# EAGLE library part LT1228 (library ota)
OTA with buffer
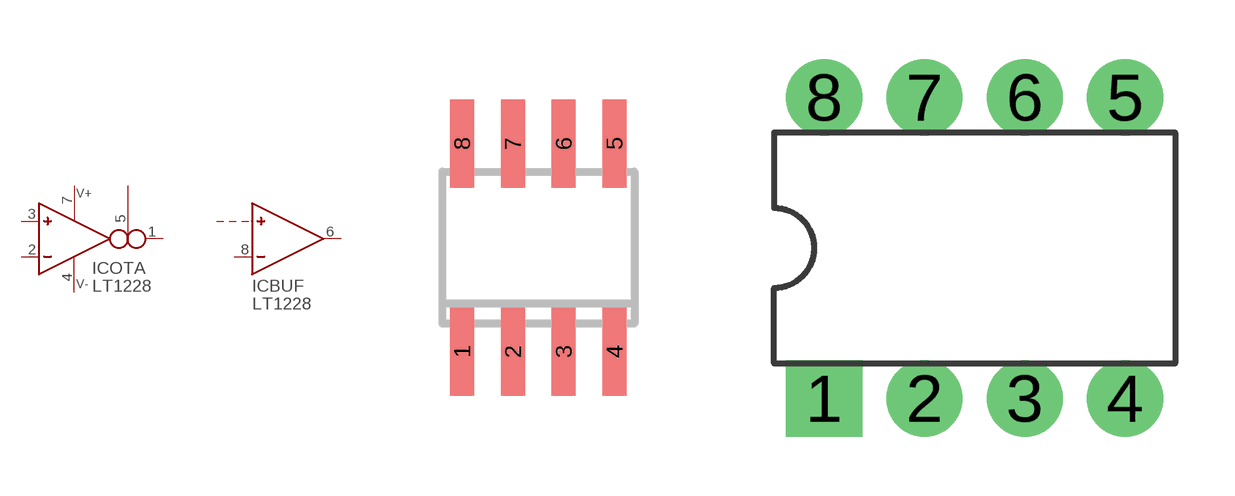
[diagram p3: symbol with the pads of SO08; footprints SO08, DIL08]

Designator prefix IC; gates OTA=OTA_BASIC SUPPLY=OTA_SUPPLY BUF=BUFAMP2

## LT1228S8  [SO08]
1  OTA:OUT  out
2  OTA:IN_N  in
3  OTA:IN_P  in
4  SUPPLY:V-  sup
5  OTA:I_BIAS  in
6  BUF:OUT  out
7  SUPPLY:V+  sup
8  BUF:IN_N  in

## LT1228N8  [DIL08]
Pads as for SO08

## Footprint SO08 (pad centres in mm)
SMALL OUTLINE INTEGRATED CIRCUIT body 3.9 mm/JEDEC MS-012AA
smd 0.6 x 2.2: 1 -1.905,-2.6; 2 -0.635,-2.6; 3 0.635,-2.6; 4 1.905,-2.6; 5 1.905,2.6; 6 0.635,2.6; 7 -0.635,2.6; 8 -1.905,2.6

## Footprint DIL08 (pad centres in mm)
Dual In Line Package
drill 0.9 pad 1.93 square: 1 -3.81,-3.81
drill 0.9 pad 1.93 round: 2 -1.27,-3.81; 3 1.27,-3.81; 4 3.81,-3.81; 5 3.81,3.81; 6 1.27,3.81; 7 -1.27,3.81; 8 -3.81,3.81